# EAGLE library part LIS3MDL-CJMCU (library NEON-BLADE-2024-new)
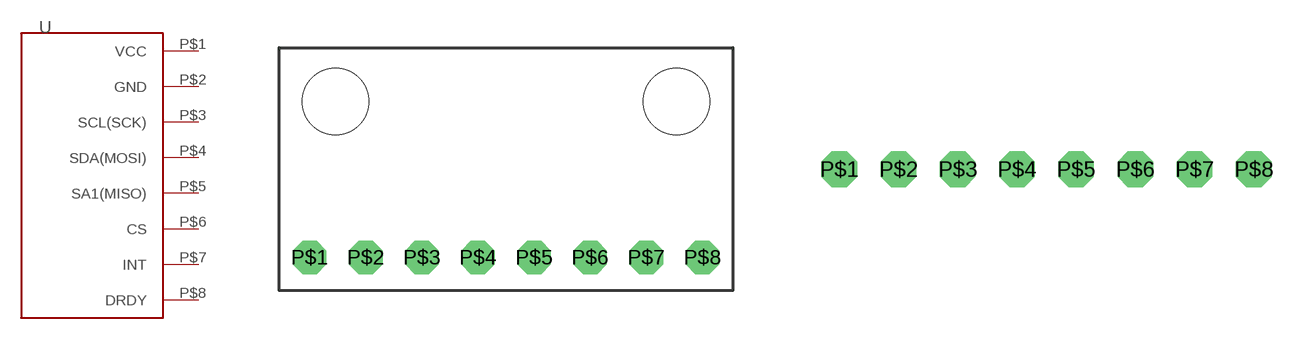
[diagram p36: symbol with the pads of LIS3MDL-CGMSU; footprints LIS3MDL-CGMSU, LIS3MDL-CGMSU-NB2023]

Designator prefix -

## LIS3MDL-CJMCU  [LIS3MDL-CGMSU]
P$1  VCC
P$2  GND
P$3  SCL(SCK)
P$4  SDA(MOSI)
P$5  SA1(MISO)
P$6  CS
P$7  INT
P$8  DRDY

## LIS3MDL-CJMCUБез_отв._зеркальный  [LIS3MDL-CGMSU-NB2023]
Pads as for LIS3MDL-CGMSU

## LIS3MDL-CJMCUбез_отв.  [LIS3MDL-CGMSU-NB2023-1]
Pads as for LIS3MDL-CGMSU

## Footprint LIS3MDL-CGMSU (pad centres in mm)
drill 1.016 octagon: P$1 -8.89,-4; P$2 -6.35,-4; P$3 -3.81,-4; P$4 -1.27,-4; P$5 1.27,-4; P$6 3.81,-4; P$7 6.35,-4; P$8 8.89,-4
hole 3 at 7.72,3.06
hole 3 at -7.72,3.06

## Footprint LIS3MDL-CGMSU-NB2023 (pad centres in mm)
drill 1.016 octagon: P$1 -8.89,-4; P$2 -6.35,-4; P$3 -3.81,-4; P$4 -1.27,-4; P$5 1.27,-4; P$6 3.81,-4; P$7 6.35,-4; P$8 8.89,-4

## Footprint LIS3MDL-CGMSU-NB2023-1 (pad centres in mm)
drill 1.016 octagon: P$1 -8.89,-4; P$2 -6.35,-4; P$3 -3.81,-4; P$4 -1.27,-4; P$5 1.27,-4; P$6 3.81,-4; P$7 6.35,-4; P$8 8.89,-4